# Altium schematic symbol library SCH - DIODES - TVS_CPDA10R3V3U.SCHLIB: 1 symbol
Pins are listed as number, name and electrical type; pins without a type are passive.

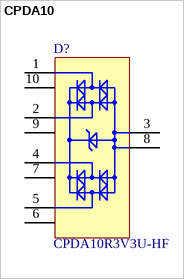
[diagram p0: symbol CPDA10]

## CPDA10
designator D?, comment CPDA10R3V3U-HF
footprint DFN230X100X55X10N
pins: 1, 2, 3, 4, 5, 6, 7, 8, 9, 10